# EAGLE library part PIC16C745 (library Microchip)
8-Bit CMOS Microcontroller with USB
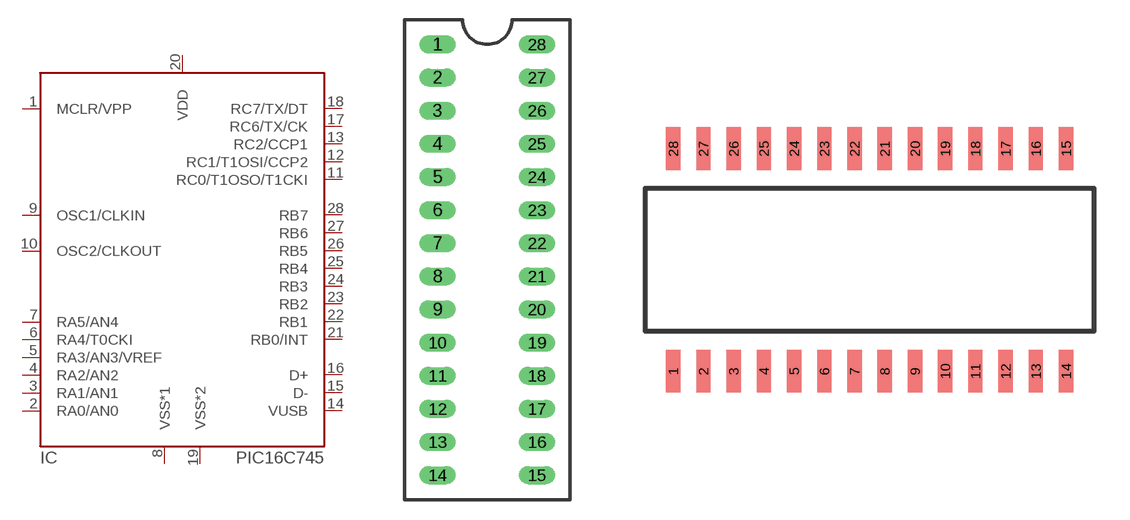
[diagram p5: symbol with the pads of DIP-28S; footprints DIP-28S, SOIC28]

Designator prefix IC

## PIC16C745/P  [DIP-28S]
1  MCLR/VPP  in
2  RA0/AN0
3  RA1/AN1
4  RA2/AN2
5  RA3/AN3/VREF
6  RA4/T0CKI
7  RA5/AN4
8  VSS*1  pwr
9  OSC1/CLKIN  in
10  OSC2/CLKOUT  out
11  RC0/T1OSO/T1CKI
12  RC1/T1OSI/CCP2
13  RC2/CCP1
14  VUSB
15  D-
16  D+
17  RC6/TX/CK
18  RC7/TX/DT
19  VSS*2  pwr
20  VDD  pwr
21  RB0/INT
22  RB1
23  RB2
24  RB3
25  RB4
26  RB5
27  RB6
28  RB7

## PIC16C745/SO  [SOIC28]
Pads as for DIP-28S

## Footprint DIP-28S (pad centres in mm)
drill 0.889 long: 1 -3.81,16.51; 2 -3.81,13.97; 3 -3.81,11.43; 4 -3.81,8.89; 5 -3.81,6.35; 6 -3.81,3.81; 7 -3.81,1.27; 8 -3.81,-1.27; 9 -3.81,-3.81; 10 -3.81,-6.35; 11 -3.81,-8.89; 12 -3.81,-11.43; 13 -3.81,-13.97; 14 -3.81,-16.51; 15 3.81,-16.51; 16 3.81,-13.97; 17 3.81,-11.43; 18 3.81,-8.89; 19 3.81,-6.35; 20 3.81,-3.81; 21 3.81,-1.27; 22 3.81,1.27; 23 3.81,3.81; 24 3.81,6.35; 25 3.81,8.89; 26 3.81,11.43; 27 3.81,13.97; 28 3.81,16.51

## Footprint SOIC28 (pad centres in mm)
SOIC-28 1.27mm pitch, 10.5mm width, 18mm length
smd 0.6 x 1.8: 1 -8.255,-4.679; 2 -6.985,-4.679; 3 -5.715,-4.679; 4 -4.445,-4.679; 5 -3.175,-4.679; 6 -1.905,-4.679; 7 -0.635,-4.679; 8 0.635,-4.679; 9 1.905,-4.679; 10 3.175,-4.679; 11 4.445,-4.679; 12 5.715,-4.679; 13 6.985,-4.679; 14 8.255,-4.679; 15 8.255,4.679; 16 6.985,4.679; 17 5.715,4.679; 18 4.445,4.679; 19 3.175,4.679; 20 1.905,4.679; 21 0.635,4.679; 22 -0.635,4.679; 23 -1.905,4.679; 24 -3.175,4.679; 25 -4.445,4.679; 26 -5.715,4.679; 27 -6.985,4.679; 28 -8.255,4.679